# EAGLE library part MC100EP140DG (library MC100EP140DG)
MC100EP140DG, Phase Frequency Detector 2.1GHz 5 8-Pin SOIC Source: Datasheet <https://componentsearchengine.com/Datasheets/2/MC100EP140DG.pdf>
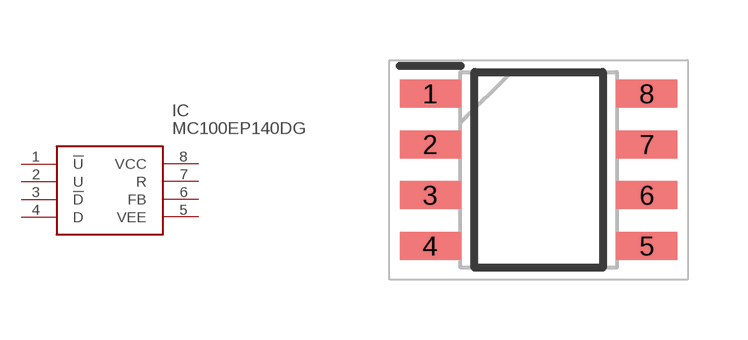
[diagram p0: symbol with the pads of SOIC127P600X175-8N; footprint SOIC127P600X175-8N]

Designator prefix IC

## MC100EP140DG (Description: MC100EP140DG, Phase Frequency Detector 2.1GHz 5 8-Pin SOIC; Height: 1.75mm; Manufacturer_Name: onsemi; Manufacturer_Part_Number: MC100EP140DG; Mouser_Part_Number: 863-MC100EP140DG; Mouser_Price-Stock: https://www.mouser.co.uk/ProductDetail/onsemi/MC100EP140DG?qs=zorda86t5M%2F2z7ITANN%252BMg%3D%3D)  [SOIC127P600X175-8N]
1  !U
2  U
3  !D
4  D
5  VEE
6  FB
7  R
8  VCC

## Footprint SOIC127P600X175-8N (pad centres in mm)
8-Pin SOIC
smd 1.525 x 0.7: 1 -2.712,1.905; 2 -2.712,0.635; 3 -2.712,-0.635; 4 -2.712,-1.905; 5 2.712,-1.905; 6 2.712,-0.635; 7 2.712,0.635; 8 2.712,1.905